# Altium footprint library Components - NPN Digital.PcbLib: 1 footprints
Each footprint in its own frame and in the unit in brackets; x right, y up, seen from the top. Pads: shape width x height; smd on the part's side, far side on the other; paste and mask are expansions set on the pad; w line width, h text height; cw(c..) or ccw(c..) is an arc to the next point about the centre after c.
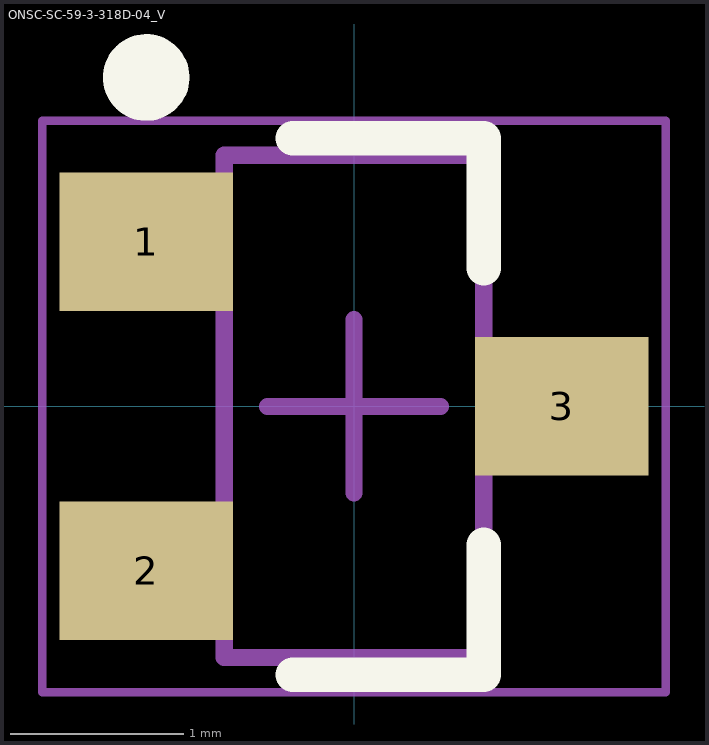
[diagram p0: the footprint, top view; thin cyan lines are the x and y axes]

## ONSC-SC-59-3-318D-04_V [mm] "SOT23, 3-Leads, Body 2.9x1.5mm, Pitch 0.95mm"
height 1.3
pads (3):
  rect 1x0.8 smd: 1(-1.2,0.95) 2(-1.2,-0.95) 3(1.2,0)
Top Overlay:
  circle w0.25: c-1.2,1.9 r0.125
  lines w0.2: -0.354,-1.55 0.75,-1.55 0.75,-0.8 ; -0.354,1.55 0.75,1.55 0.75,0.8
Mechanical 13:
  lines w0.1: -0.75,-1.45 -0.75,1.45 0.75,1.45 0.75,-1.45 -0.75,-1.45
Mechanical 15:
  lines w0.05: -1.8,-1.65 -1.8,1.65 1.8,1.65 1.8,-1.65 -1.8,-1.65
  lines w0.1: -0.5,0 0.5,0 ; 0,-0.5 0,0.5
3D body: height 1.3, standoff 0.01, extent -0.75,-1.45 0.75,1.45